# EAGLE library part MICRO_USB_4_LEGS5P_YANXINLIANG (library 180118 Library by matsu)
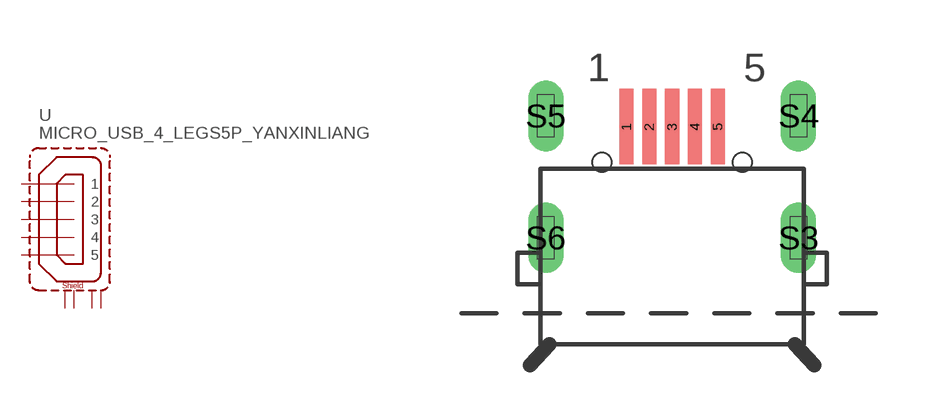
[diagram p52: symbol with the pads of MICRO_USB_4_LEGS5P_YANXINLIANG; footprint MICRO_USB_4_LEGS5P_YANXINLIANG]

Designator prefix -

## MICRO_USB_4_LEGS5P_YANXINLIANG  [MICRO_USB_4_LEGS5P_YANXINLIANG]
1  1  in
2  2  in
3  3  in
4  4  in
5  5  in
S3  S3  pas
S4  S4  pas
S5  S5  pas
S6  S6  pas

## Footprint MICRO_USB_4_LEGS5P_YANXINLIANG (pad centres in mm)
smd 0.4 x 2.15: 1 -1.3,5.31; 2 -0.65,5.31; 3 0,5.31; 4 0.65,5.31; 5 1.3,5.31
drill 0.5 long: S3 3.6,2.15; S4 3.6,5.62; S5 -3.6,5.62; S6 -3.6,2.15
hole 0.55 at -2,4.3
hole 0.55 at 2,4.3